# EAGLE library part SMD_ARDUINO (library Brundage Buisness Card)
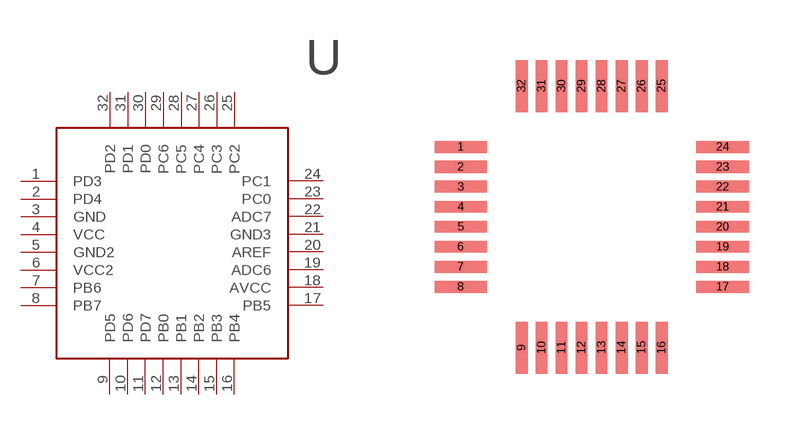
[diagram p5: symbol with the pads of SMDARDUINO; footprint SMDARDUINO]

Designator prefix -

## SMD_ARDUINO  [SMDARDUINO]
1  PD3
2  PD4
3  GND
4  VCC
5  GND2
6  VCC2
7  PB6
8  PB7
9  PD5
10  PD6
11  PD7
12  PB0
13  PB1
14  PB2
15  PB3
16  PB4
17  PB5
18  AVCC
19  ADC6
20  AREF
21  GND3
22  ADC7
23  PC0
24  PC1
25  PC2
26  PC3
27  PC4
28  PC5
29  PC6
30  PD0
31  PD1
32  PD2

## Footprint SMDARDUINO (pad centres in mm)
smd 1.3 x 0.3: 1 0,0; 2 0,-0.5; 3 0,-1; 4 0,-1.5; 5 0,-2; 6 0,-2.5; 7 0,-3; 8 0,-3.5; 17 6.55,-3.5; 18 6.55,-3; 19 6.55,-2.5; 20 6.55,-2; 21 6.55,-1.5; 22 6.55,-1; 23 6.55,-0.5; 24 6.55,0
smd 0.3 x 1.3: 9 1.525,-5.025; 10 2.025,-5.025; 11 2.525,-5.025; 12 3.025,-5.025; 13 3.525,-5.025; 14 4.025,-5.025; 15 4.525,-5.025; 16 5.025,-5.025; 25 5.025,1.525; 26 4.525,1.525; 27 4.025,1.525; 28 3.525,1.525; 29 3.025,1.525; 30 2.525,1.525; 31 2.025,1.525; 32 1.525,1.525